# Altium schematic symbol library Resistor.SchLib: 18 symbols
Pins are listed as number, name and electrical type; pins without a type are passive.

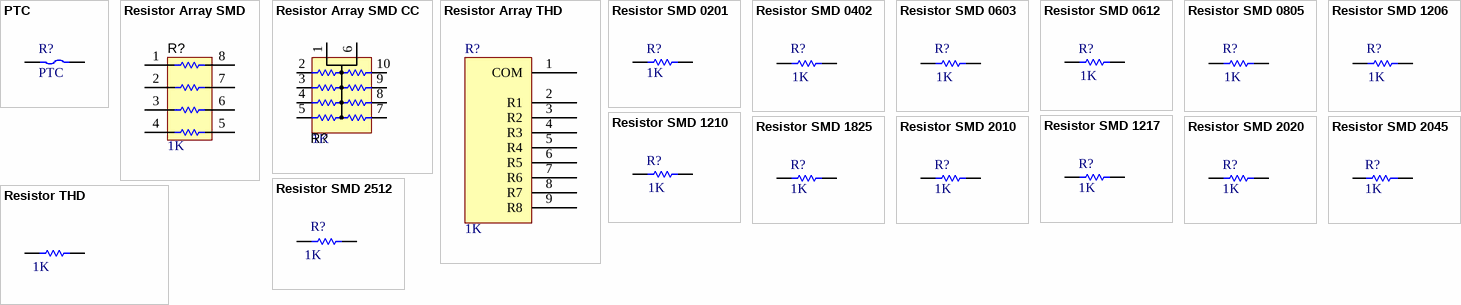
[diagram p0: symbols PTC to Resistor THD]

## PTC
designator R?  value PTC
PTC Resettable Fuse 2A(hold) 3.8A(trip) 16V 1.4W 3s 0.045Ohm Radial 9.4 X 3mm Bag; DatasheetVersion: 2022
footprint PTC Red
footprint PTC yELLOW
pins: 1, 2

## Resistor Array SMD
designator R?  value 1K
Resistor Array SMD; DatasheetVersion: 2022
footprint RP0603X4 (RPACK, 0603X4, 160X80X4 1206)
pins: 1, 2, 3, 4, 5, 6, 7, 8

## Resistor Array SMD CC
designator R?  value 1K
Resistor Array SMD CC; DatasheetVersion: 2022
footprint RARRX8_4021 (Resistor ARRAY X8, SMD, 4.0x2.1mm)
pins: 1 COM, 2, 3, 4, 5, 6 COM, 7, 8, 9, 10

## Resistor Array THD
designator R?  value 1K
Resistor Array THD; DatasheetVersion: 2022
footprint Res Array
footprint RES_ARRAYX8
pins: 1 COM, 2 R1, 3 R2, 4 R3, 5 R4, 6 R5, 7 R6, 8 R7, 9 R8

## Resistor SMD 0201
designator R?  value 1K
Resistor SMD 0201; DatasheetVersion: 2022
footprint SMD-0201-RES
footprint RESC0603L (0201) (Chip Resistor, Body 0.6x0.3mm, IPC High Density)
footprint RESC0603M (0201) (Chip Resistor, Body 0.6x0.3mm, IPC Low Density)
footprint RESC0603N (0201) (Chip Resistor, Body 0.6x0.3mm, IPC Medium Density)
footprint RES 0201 (0603X03L) (Chip Resistor, 2-Leads, Body 0.6x0.3mm, IPC High Density (0.05 W))
pins: 1, 2

## Resistor SMD 0402
designator R?  value 1K
Resistor SMD 0402; DatasheetVersion: 2022
footprint SMD-0402-RES
footprint RESC1005L (0402) (Chip Resistor, Body 1.1x0.5mm, IPC High Density)
footprint RESC1005M (0402) (Chip Resistor, Body 1.1x0.5mm, IPC Low Density)
footprint RESC1005N (0402) (Chip Resistor, Body 1.1x0.5mm, IPC Medium Density)
footprint RES 0402 (1005X04L) (Chip Resistor, 2-Leads, Body 1.0x0.5mm, IPC High Density _ (0.031/0.063 W))
footprint R0402 (CHIP Resistor 1/16 WATT, 1.0X0.5mm, 0402, 1005)
footprint R0402E (CHIP Resistor 1/16 WATT, 1.0X0.5mm, EXPANDED PAD)
footprint R0402O (0402 Optimized for place close together)
pins: 1, 2

## Resistor SMD 0603
designator R?  value 1K
Resistor SMD 0603; DatasheetVersion: 2022
footprint SMD-0603-RES
footprint RESC1608L (0603) (Chip Resistor, Body 1.6x0.8mm, IPC High Density)
footprint RESC1608M (0603) (Chip Resistor, Body 1.6x0.8mm, IPC Low Density)
footprint RESC1608N (0603) (Chip Resistor, Body 1.6x0.8mm, IPC Medium Density)
footprint RES 0603 (1608X06L) (Chip Resistor, 2-Leads, Body 1.6x0.8mm, IPC High Density _ (0.063W))
footprint R0603 (CHIP Resistor 1/10 WATT, 1.6x0.8mm, 0603, 1608)
footprint R0603E (CHIP Resistor 1/10 WATT, 1.6x0.8mm, 0603, EXPANDED PAD)
footprint R0603O (CHIP Resistor 1/10 WATT, 1.6x0.8mm, 0603, OPTIMIZED)
pins: 1, 2

## Resistor SMD 0612
designator R?  value 1K
Resistor SMD 0612; DatasheetVersion: 2022
footprint R0612 (CHIP RESISTOR 1/4 WATT, Body 1.6x3.2mm, 1632, 0612)
pins: 1, 2

## Resistor SMD 0805
designator R?  value 1K
Resistor SMD 0805; DatasheetVersion: 2022
footprint SMD-0805-RES
footprint RESC2012L (0805) (Chip Resistor, Body 2.0x1.3mm, IPC High Density)
footprint RESC2012M (0805) (Chip Resistor, Body 2.0x1.3mm, IPC Low Density)
footprint RESC2012N (0805) (Chip Resistor, Body 2.0x1.3mm, IPC Medium Density)
footprint RES 0805 (2012X06L) (Chip Resistor, 2-Leads, Body 2.0x1.3mm, IPC High Density _ (0.100 W))
footprint R0805 (CHIP RESISTOR 1/8 WATT ,2.0X1.3mm, 0805, 2012)
footprint R0805E (CHIP RESISTOR 1/8 WATT ,2.0X1.3mm, 0805, EXPANDED PAD)
pins: 1, 2

## Resistor SMD 1206
designator R?  value 1K
Resistor SMD 1206; DatasheetVersion: 2022
footprint SMD-1206-RES
footprint RESC3216X60L (1206) (Chip Resistor, Body 3.2x1.6x0.60 mm, IPC High Density)
footprint RESC3216X60M (1206) (Chip Resistor, Body 3.2x1.6x0.60mm, IPC Low Density)
footprint RESC3216X60N (1206) (Chip Resistor, Body 3.2x1.6x0.60 mm, IPC Medium Density)
footprint RESC3216X84L (1206) (Chip Resistor, Body 3.2x1.6x0.84 mm, IPC High Density)
footprint RESC3216X84M (1206) (Chip Resistor, Body 3.2x1.6x0.84mm, IPC Low Density)
footprint RESC3216X84N (1206) (Chip Resistor, Body 3.2x1.6x0.84 mm, IPC Medium Density)
footprint RES 1206 (3216X08L) (Chip Resistor, 2-Leads, Body 3.2x1.6mm, IPC High Density _ (0.125 W))
footprint R1206 (CHIP RESISTOR 1/4 WATT, Body 3.2x1.6mm,1206, 3216)
footprint R1206E (CHIP RESISTOR 1/4 WATT, EXPANDED PAD)
pins: 1, 2

## Resistor SMD 1210
designator R?  value 1K
Resistor SMD 1210; DatasheetVersion: 2022
footprint RES 1210 (3226X07L) (Chip Resistor, 2-Leads, Body 3.2x2.6mm, IPC High Density _ (0.250 W))
footprint R1210 (CHIP RESISTOR 1/2 WATT, Body 3.2x2.5mm,1210, 3225)
pins: 1, 2

## Resistor SMD 1217
designator R?  value 1K
Resistor SMD 1217; DatasheetVersion: 2022
footprint RES 1217 (3042X09L) (Chip Resistor, 2-Leads, Body 3.0x4.2mm, IPC High Density _ (0.250 W))
pins: 1, 2

## Resistor SMD 1825
designator R?  value 1K
Resistor SMD 1825; DatasheetVersion: 2022
footprint R1825 (CHIP Resistor, 5.1x3.0mm, 4.6X6.4mm, 1825, 4565)
pins: 1, 2

## Resistor SMD 2010
designator R?  value 1K
Resistor SMD 2010; DatasheetVersion: 2022
footprint RES 2010 (5026X08L) (Chip Resistor, 2-Leads, Body 5.0x2.6mm, IPC High Density _ (0.250 W))
footprint R2010 (CHIP RESISTOR 3/4 WATT, 5.1x3mm, 2010, 5025)
pins: 1, 2

## Resistor SMD 2020
designator R?  value 1K
Resistor SMD 2020; DatasheetVersion: 2022
footprint RES 2020 (5151X09L) (Chip Resistor, 2-Leads, Body 5.1x5.1mm, IPC High Density _ (0.5 W))
pins: 1, 2

## Resistor SMD 2045
designator R?  value 1K
Resistor SMD 2045; DatasheetVersion: 2022
footprint RES 2045 (50115X09L) (Chip Resistor, 2-Leads, Body 5.0x11.5mm, IPC High Density _ (1.0 W))
pins: 1, 2

## Resistor SMD 2512
designator R?  value 1K
Resistor SMD 2512; DatasheetVersion: 2022
footprint SMD-2512-RES
footprint RES 2512 (6331X07L) (Chip Resistor, 2-Leads, Body 6.3x3.1mm, IPC High Density _ (0.500 W))
footprint R2512 (CHIP RESISTOR 1 WATT, 6.4X3.2mm, 2512, 6432)
pins: 1, 2

## Resistor THD
designator R?  value 1K
Resistor THD; DatasheetVersion: 2022
footprint RWW10W_VER (RESISTOR 10 WATT, Wirewound)
footprint RWW5W (RESISTOR 5 WATT, Wirewound)
footprint RWW2W_VER (RESISTOR 2 WATT, Wirewound)
footprint Res_0.25w
footprint Resistor_3W
footprint Resistor_0.5W
footprint Res-(5/1)-Stand
footprint Res-(1/4)-Stand
footprint Res-(1/2)-Stand
footprint Res-(1/8)
footprint Res-(1/4)
footprint Res-(1/2)
footprint Res-(1/1)
footprint R0125W_AX_VER (RESISTOR 1/8 WATT, AXIAL0.25)
footprint R1W_AX06 (RESISTOR 1 WATT, AXIAL0.6)
footprint R2W_AX08 (RESISTOR 2 WATT, AXIAL0.8)
footprint R2W_AX_VER (RESISTOR 2 WATT, AXIAL0.8)
footprint R3W_AX09 (RESISTOR 3 WATT, AXIAL0.9)
footprint R4W_AX10 (RESISTOR 4 WATT, AXIAL1.0)
footprint R05W_AX05 (RESISTOR 0.5 WATT, AXIAL0.5)
footprint R5W_AX11 (RESISTOR 5 WATT, AXIAL1.1)
footprint R5W_VER (RESISTOR 5 WATT, AXIAL1.1)
footprint R10W_AX11 (RESISTOR 10 WATT, AXIAL1.1)
footprint R025W_AX04 (RESISTOR 1/4 WATT, AXIAL0.4)
footprint R10W_AX14 (RESISTOR 10 WATT, AXIAL1.4)
footprint R10W_AX20 (RESISTOR 10 WATT, AXIAL2.0)
footprint R0125W_AX03 (RESISTOR 1/8 WATT, AXIAL0.3 INCH SPACING)
footprint R0125W_AX025 (RESISTOR 1/8 WATT, AXIAL0.25)
pins: 1, 2